# EAGLE library part PFC8583 (library micro-philips)
I2C-Bus CLOCK/CALENDAR
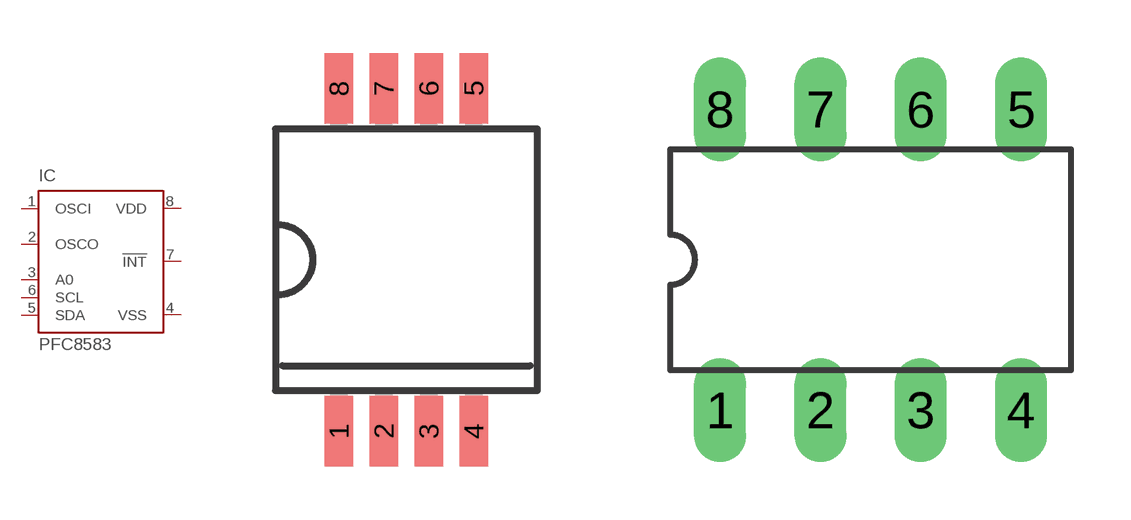
[diagram p31: symbol with the pads of SO8-7_5; footprints SO8-7_5, DIL08]

Designator prefix IC

## PFC8583T (OC_FARNELL: unknown; OC_NEWARK: unknown)  [SO8-7_5]
1  OSCI  in
2  OSCO  out
3  A0  in
4  VSS  pwr
5  SDA
6  SCL  in
7  !INT  out
8  VDD  pwr

## PFC8583P (OC_FARNELL: unknown; OC_NEWARK: unknown)  [DIL08]
Pads as for SO8-7_5

## Footprint SO8-7_5 (pad centres in mm)
Small Outline Package
smd 0.8 x 2: 1 -1.905,-4.845; 2 -0.635,-4.845; 3 0.635,-4.845; 4 1.905,-4.845; 5 1.905,4.845; 6 0.635,4.845; 7 -0.635,4.845; 8 -1.905,4.845

## Footprint DIL08 (pad centres in mm)
Dual In Line
drill 0.813 long: 1 -3.81,-3.81; 2 -1.27,-3.81; 3 1.27,-3.81; 4 3.81,-3.81; 5 3.81,3.81; 6 1.27,3.81; 7 -1.27,3.81; 8 -3.81,3.81